# Altium schematic symbol library RC0402FR-0720KL.SchLib: 1 symbol
Pins are listed as number, name and electrical type; pins without a type are passive.

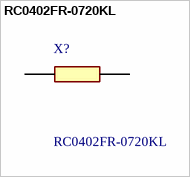
[diagram p0: symbol RC0402FR-0720KL]

## RC0402FR-0720KL
designator X?
Thick Film Resistors - SMD 20 kOhms 62.5mW 0402 1%; Manufacturer_Name: Yageo Group; Geometry.Height: 0.4mm; Mouser Part Number: 603-RC0402FR-0720KL; Mouser Price/Stock: https://www.mouser.co.uk/ProductDetail/YAGEO/RC0402FR-0720KL?qs=V1yeUXFNrklxRvgYM5JI2A%3D%3D; Manufacturer_Part_Number: RC0402FR-0720KL; Datasheet Link: https://www.yageo.com/upload/media/product/productsearch/datasheet/rchip/PYu-RC_Group_51_RoHS_L_12.pdf
footprint RESC1005X40N
pins: 1, 2